# EAGLE library part HV5522 (library Power > Power Switch)
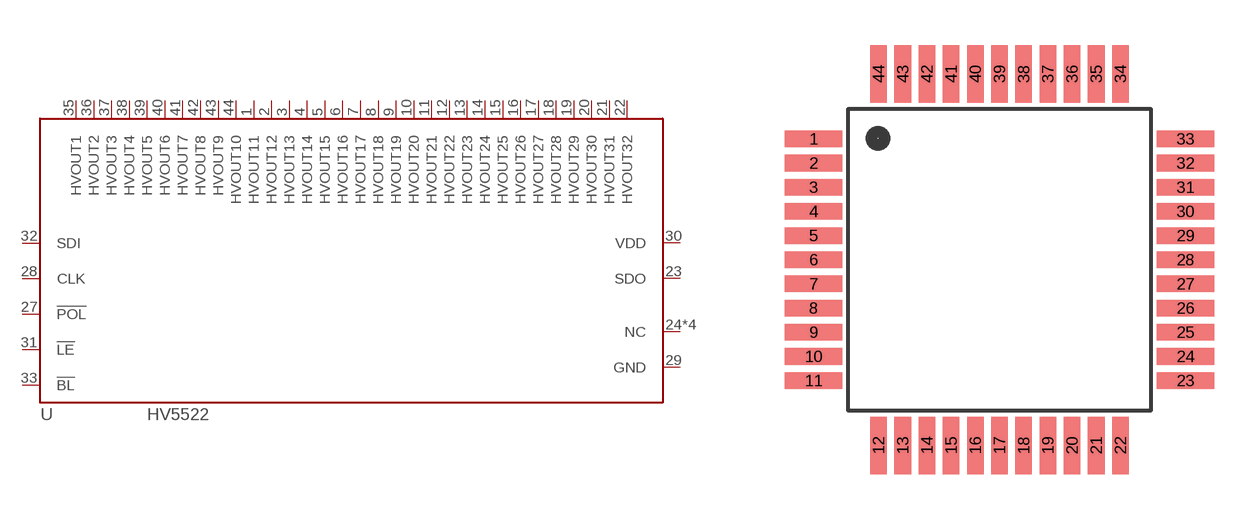
[diagram p0: symbol with the pads of QFP64; footprint QFP64]

Designator prefix U

## HV5522  [QFP64]
1  HVOUT11
2  HVOUT12
3  HVOUT13
4  HVOUT14
5  HVOUT15
6  HVOUT16
7  HVOUT17
8  HVOUT18
9  HVOUT19
10  HVOUT20
11  HVOUT21
12  HVOUT22
13  HVOUT23
14  HVOUT24
15  HVOUT25
16  HVOUT26
17  HVOUT27
18  HVOUT28
19  HVOUT29
20  HVOUT30
21  HVOUT31
22  HVOUT32
23  SDO
24  NC
25  NC
26  NC
27  !POL
28  CLK
29  GND
30  VDD
31  !LE
32  SDI
33  !BL
34  NC
35  HVOUT1
36  HVOUT2
37  HVOUT3
38  HVOUT4
39  HVOUT5
40  HVOUT6
41  HVOUT7
42  HVOUT8
43  HVOUT9
44  HVOUT10

## Footprint QFP64 (pad centres in mm)
smd 1.9 x 0.55: 1 -6.15,4; 2 -6.15,3.2; 3 -6.15,2.4; 4 -6.15,1.6; 5 -6.15,0.8; 6 -6.15,0; 7 -6.15,-0.8; 8 -6.15,-1.6; 9 -6.15,-2.4; 10 -6.15,-3.2; 11 -6.15,-4; 23 6.15,-4; 24 6.15,-3.2; 25 6.15,-2.4; 26 6.15,-1.6; 27 6.15,-0.8; 28 6.15,0; 29 6.15,0.8; 30 6.15,1.6; 31 6.15,2.4; 32 6.15,3.2; 33 6.15,4
smd 0.55 x 1.9: 12 -4,-6.15; 13 -3.2,-6.15; 14 -2.4,-6.15; 15 -1.6,-6.15; 16 -0.8,-6.15; 17 0,-6.15; 18 0.8,-6.15; 19 1.6,-6.15; 20 2.4,-6.15; 21 3.2,-6.15; 22 4,-6.15; 34 4,6.15; 35 3.2,6.15; 36 2.4,6.15; 37 1.6,6.15; 38 0.8,6.15; 39 0,6.15; 40 -0.8,6.15; 41 -1.6,6.15; 42 -2.4,6.15; 43 -3.2,6.15; 44 -4,6.15